# EAGLE library part ESP32-WROVER_ESP32-WROVER (library RetroESP32)
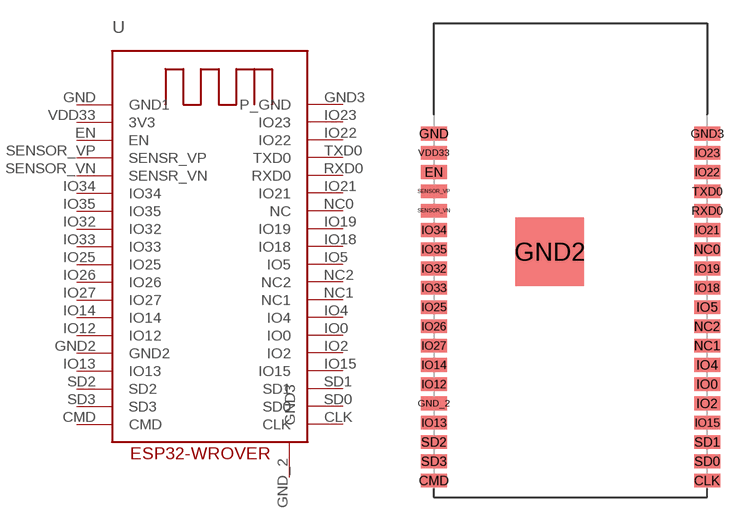
[diagram p5: symbol with the pads of ESP32-WROVER_ESP32-WROVER; footprint ESP32-WROVER_ESP32-WROVER]

Designator prefix -

## ESP32-WROVER_ESP32-WROVER  [ESP32-WROVER_ESP32-WROVER]
CLK  CLK
CMD  CMD
EN  EN
GND  GND1
GND2  GND2
GND3  P_GND
GND_2  GND3
IO0  IO0
IO2  IO2
IO4  IO4
IO5  IO5
IO12  IO12
IO13  IO13
IO14  IO14
IO15  IO15
IO18  IO18
IO19  IO19
IO21  IO21
IO22  IO22
IO23  IO23
IO25  IO25
IO26  IO26
IO27  IO27
IO32  IO32
IO33  IO33
IO34  IO34
IO35  IO35
NC0  NC
NC1  NC1
NC2  NC2
RXD0  RXD0
SD0  SD0
SD1  SD1
SD2  SD2
SD3  SD3
SENSOR_VN  SENSR_VN
SENSOR_VP  SENSR_VP
TXD0  TXD0
VDD33  3V3

## Footprint ESP32-WROVER_ESP32-WROVER (pad centres in mm)
smd 1.7 x 0.9: CLK 18,1.27; CMD 0,1.27; EN 0,21.59; GND 0,24.13; GND3 18,24.13; GND_2 0,6.35; IO0 18,7.62; IO2 18,6.35; IO4 18,8.89; IO5 18,12.7; IO12 0,7.62; IO13 0,5.08; IO14 0,8.89; IO15 18,5.08; IO18 18,13.97; IO19 18,15.24; IO21 18,17.78; IO22 18,21.59; IO23 18,22.86; IO25 0,12.7; IO26 0,11.43; IO27 0,10.16; IO32 0,15.24; IO33 0,13.97; IO34 0,17.78; IO35 0,16.51; NC0 18,16.51; NC1 18,10.16; NC2 18,11.43; RXD0 18,19.05; SD0 18,2.54; SD1 18,3.81; SD2 0,3.81; SD3 0,2.54; SENSOR_VN 0,19.05; SENSOR_VP 0,20.32; TXD0 18,20.32; VDD33 0,22.86
smd 4.5 x 4.5: GND2 7.62,16.34